# Altium footprint library TRANS_CSD87503Q3ET.PcbLib: 1 footprints
Each footprint in its own frame and in the unit in brackets; x right, y up, seen from the top. Pads: shape width x height; smd on the part's side, far side on the other; paste and mask are expansions set on the pad; w line width, h text height; cw(c..) or ccw(c..) is an arc to the next point about the centre after c.
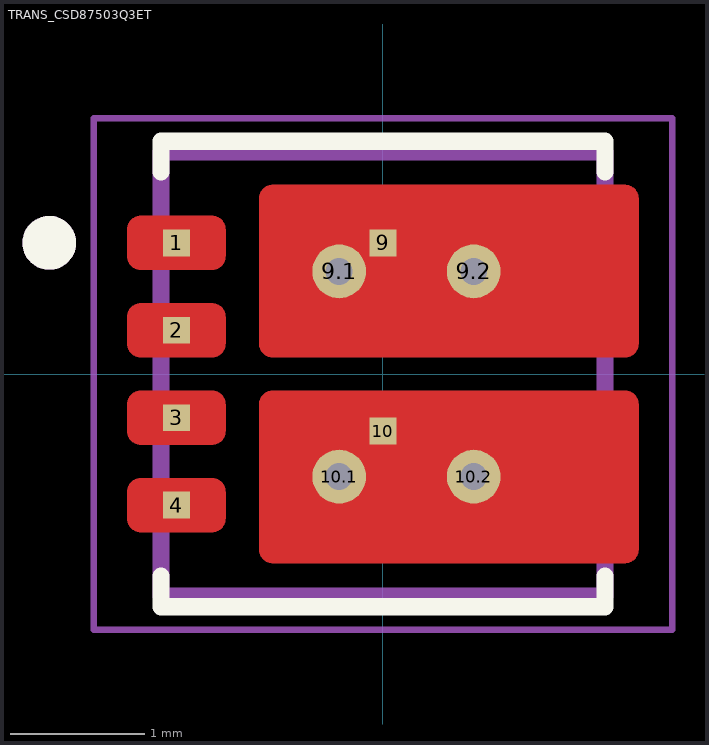
[diagram p0: the footprint, top view; thin cyan lines are the x and y axes]

## TRANS_CSD87503Q3ET [mm]
pads (10):
  rect 0.2x0.2 smd paste-1 mask+0: 1(-1.535,0.975) 2(-1.535,0.325) 3(-1.535,-0.325) 4(-1.535,-0.975) 9(0,0.975) 10(0,-0.425)
  round 0.4 hole 0.2 mask+0: 9.1(-0.325,0.763) 9.2(0.675,0.763) 10.1(-0.325,-0.763) 10.2(0.675,-0.763)
Top Layer:
  region: 1.805,-0.125 1.81,-0.126 1.816,-0.126 1.821,-0.127 1.826,-0.128 1.831,-0.13 1.836,-0.132 1.841,-0.134 1.845,-0.136 1.85,-0.138 1.854,-0.141 1.859,-0.144 1.863,-0.147 1.867,-0.151 1.871,-0.154 1.874,-0.158 1.878,-0.162 1.881,-0.166 1.884,-0.171 1.887,-0.175 1.889,-0.18 1.891,-0.184 1.893,-0.189 1.895,-0.194 1.897,-0.199 1.898,-0.204 1.899,-0.209 1.899,-0.215 1.9,-0.22 1.9,-0.225 1.9,-1.305 1.9,-1.31 1.899,-1.315 1.899,-1.321 1.898,-1.326 1.897,-1.331 1.895,-1.336 1.893,-1.341 1.891,-1.346 1.889,-1.35 1.887,-1.355 1.884,-1.359 1.881,-1.364 1.878,-1.368 1.874,-1.372 1.871,-1.376 1.867,-1.379 1.863,-1.383 1.859,-1.386 1.854,-1.389 1.85,-1.392 1.845,-1.394 1.841,-1.396 1.836,-1.398 1.831,-1.4 1.826,-1.402 1.821,-1.403 1.816,-1.404 1.81,-1.404 1.805,-1.405 1.8,-1.405 -0.82,-1.405 -0.825,-1.405 -0.83,-1.404 -0.836,-1.404 -0.841,-1.403 -0.846,-1.402 -0.851,-1.4 -0.856,-1.398 -0.861,-1.396 -0.865,-1.394 -0.87,-1.392 -0.874,-1.389 -0.879,-1.386 -0.883,-1.383 -0.887,-1.379 -0.891,-1.376 -0.894,-1.372 -0.898,-1.368 -0.901,-1.364 -0.904,-1.359 -0.907,-1.355 -0.909,-1.35 -0.911,-1.346 -0.913,-1.341 -0.915,-1.336 -0.917,-1.331 -0.918,-1.326 -0.919,-1.321 -0.919,-1.315 -0.92,-1.31 -0.92,-1.305 -0.92,-0.225 -0.92,-0.22 -0.919,-0.215 -0.919,-0.209 -0.918,-0.204 -0.917,-0.199 -0.915,-0.194 -0.913,-0.189 -0.911,-0.184 -0.909,-0.18 -0.907,-0.175 -0.904,-0.171 -0.901,-0.166 -0.898,-0.162 -0.894,-0.158 -0.891,-0.154 -0.887,-0.151 -0.883,-0.147 -0.879,-0.144 -0.874,-0.141 -0.87,-0.138 -0.865,-0.136 -0.861,-0.134 -0.856,-0.132 -0.851,-0.13 -0.846,-0.128 -0.841,-0.127 -0.836,-0.126 -0.83,-0.126 -0.825,-0.125 -0.82,-0.125 1.8,-0.125
  region: 1.805,1.405 1.81,1.404 1.816,1.404 1.821,1.403 1.826,1.402 1.831,1.4 1.836,1.398 1.841,1.396 1.845,1.394 1.85,1.392 1.854,1.389 1.859,1.386 1.863,1.383 1.867,1.379 1.871,1.376 1.874,1.372 1.878,1.368 1.881,1.364 1.884,1.359 1.887,1.355 1.889,1.35 1.891,1.346 1.893,1.341 1.895,1.336 1.897,1.331 1.898,1.326 1.899,1.321 1.899,1.315 1.9,1.31 1.9,1.305 1.9,0.225 1.9,0.22 1.899,0.215 1.899,0.209 1.898,0.204 1.897,0.199 1.895,0.194 1.893,0.189 1.891,0.184 1.889,0.18 1.887,0.175 1.884,0.171 1.881,0.166 1.878,0.162 1.874,0.158 1.871,0.154 1.867,0.151 1.863,0.147 1.859,0.144 1.854,0.141 1.85,0.138 1.845,0.136 1.841,0.134 1.836,0.132 1.831,0.13 1.826,0.128 1.821,0.127 1.816,0.126 1.81,0.126 1.805,0.125 1.8,0.125 -0.82,0.125 -0.825,0.125 -0.83,0.126 -0.836,0.126 -0.841,0.127 -0.846,0.128 -0.851,0.13 -0.856,0.132 -0.861,0.134 -0.865,0.136 -0.87,0.138 -0.874,0.141 -0.879,0.144 -0.883,0.147 -0.887,0.151 -0.891,0.154 -0.894,0.158 -0.898,0.162 -0.901,0.166 -0.904,0.171 -0.907,0.175 -0.909,0.18 -0.911,0.184 -0.913,0.189 -0.915,0.194 -0.917,0.199 -0.918,0.204 -0.919,0.209 -0.919,0.215 -0.92,0.22 -0.92,0.225 -0.92,1.305 -0.92,1.31 -0.919,1.315 -0.919,1.321 -0.918,1.326 -0.917,1.331 -0.915,1.336 -0.913,1.341 -0.911,1.346 -0.909,1.35 -0.907,1.355 -0.904,1.359 -0.901,1.364 -0.898,1.368 -0.894,1.372 -0.891,1.376 -0.887,1.379 -0.883,1.383 -0.879,1.386 -0.874,1.389 -0.87,1.392 -0.865,1.394 -0.861,1.396 -0.856,1.398 -0.851,1.4 -0.846,1.402 -0.841,1.403 -0.836,1.404 -0.83,1.404 -0.825,1.405 -0.82,1.405 1.8,1.405
  region: -1.265,-0.775 -1.26,-0.776 -1.254,-0.776 -1.249,-0.777 -1.244,-0.778 -1.239,-0.78 -1.234,-0.782 -1.229,-0.784 -1.225,-0.786 -1.22,-0.788 -1.216,-0.791 -1.211,-0.794 -1.207,-0.797 -1.203,-0.801 -1.199,-0.804 -1.196,-0.808 -1.192,-0.812 -1.189,-0.816 -1.186,-0.821 -1.183,-0.825 -1.181,-0.83 -1.179,-0.834 -1.177,-0.839 -1.175,-0.844 -1.173,-0.849 -1.172,-0.854 -1.171,-0.859 -1.171,-0.865 -1.17,-0.87 -1.17,-0.875 -1.17,-1.075 -1.17,-1.08 -1.171,-1.085 -1.171,-1.091 -1.172,-1.096 -1.173,-1.101 -1.175,-1.106 -1.177,-1.111 -1.179,-1.116 -1.181,-1.12 -1.183,-1.125 -1.186,-1.129 -1.189,-1.134 -1.192,-1.138 -1.196,-1.142 -1.199,-1.146 -1.203,-1.149 -1.207,-1.153 -1.211,-1.156 -1.216,-1.159 -1.22,-1.162 -1.225,-1.164 -1.229,-1.166 -1.234,-1.168 -1.239,-1.17 -1.244,-1.172 -1.249,-1.173 -1.254,-1.174 -1.26,-1.174 -1.265,-1.175 -1.27,-1.175 -1.8,-1.175 -1.805,-1.175 -1.81,-1.174 -1.816,-1.174 -1.821,-1.173 -1.826,-1.172 -1.831,-1.17 -1.836,-1.168 -1.841,-1.166 -1.845,-1.164 -1.85,-1.162 -1.854,-1.159 -1.859,-1.156 -1.863,-1.153 -1.867,-1.149 -1.871,-1.146 -1.874,-1.142 -1.878,-1.138 -1.881,-1.134 -1.884,-1.129 -1.887,-1.125 -1.889,-1.12 -1.891,-1.116 -1.893,-1.111 -1.895,-1.106 -1.897,-1.101 -1.898,-1.096 -1.899,-1.091 -1.899,-1.085 -1.9,-1.08 -1.9,-1.075 -1.9,-0.875 -1.9,-0.87 -1.899,-0.865 -1.899,-0.859 -1.898,-0.854 -1.897,-0.849 -1.895,-0.844 -1.893,-0.839 -1.891,-0.834 -1.889,-0.83 -1.887,-0.825 -1.884,-0.821 -1.881,-0.816 -1.878,-0.812 -1.874,-0.808 -1.871,-0.804 -1.867,-0.801 -1.863,-0.797 -1.859,-0.794 -1.854,-0.791 -1.85,-0.788 -1.845,-0.786 -1.841,-0.784 -1.836,-0.782 -1.831,-0.78 -1.826,-0.778 -1.821,-0.777 -1.816,-0.776 -1.81,-0.776 -1.805,-0.775 -1.8,-0.775 -1.27,-0.775
  region: -1.265,1.175 -1.26,1.174 -1.254,1.174 -1.249,1.173 -1.244,1.172 -1.239,1.17 -1.234,1.168 -1.229,1.166 -1.225,1.164 -1.22,1.162 -1.216,1.159 -1.211,1.156 -1.207,1.153 -1.203,1.149 -1.199,1.146 -1.196,1.142 -1.192,1.138 -1.189,1.134 -1.186,1.129 -1.183,1.125 -1.181,1.12 -1.179,1.116 -1.177,1.111 -1.175,1.106 -1.173,1.101 -1.172,1.096 -1.171,1.091 -1.171,1.085 -1.17,1.08 -1.17,1.075 -1.17,0.875 -1.17,0.87 -1.171,0.865 -1.171,0.859 -1.172,0.854 -1.173,0.849 -1.175,0.844 -1.177,0.839 -1.179,0.834 -1.181,0.83 -1.183,0.825 -1.186,0.821 -1.189,0.816 -1.192,0.812 -1.196,0.808 -1.199,0.804 -1.203,0.801 -1.207,0.797 -1.211,0.794 -1.216,0.791 -1.22,0.788 -1.225,0.786 -1.229,0.784 -1.234,0.782 -1.239,0.78 -1.244,0.778 -1.249,0.777 -1.254,0.776 -1.26,0.776 -1.265,0.775 -1.27,0.775 -1.8,0.775 -1.805,0.775 -1.81,0.776 -1.816,0.776 -1.821,0.777 -1.826,0.778 -1.831,0.78 -1.836,0.782 -1.841,0.784 -1.845,0.786 -1.85,0.788 -1.854,0.791 -1.859,0.794 -1.863,0.797 -1.867,0.801 -1.871,0.804 -1.874,0.808 -1.878,0.812 -1.881,0.816 -1.884,0.821 -1.887,0.825 -1.889,0.83 -1.891,0.834 -1.893,0.839 -1.895,0.844 -1.897,0.849 -1.898,0.854 -1.899,0.859 -1.899,0.865 -1.9,0.87 -1.9,0.875 -1.9,1.075 -1.9,1.08 -1.899,1.085 -1.899,1.091 -1.898,1.096 -1.897,1.101 -1.895,1.106 -1.893,1.111 -1.891,1.116 -1.889,1.12 -1.887,1.125 -1.884,1.129 -1.881,1.134 -1.878,1.138 -1.874,1.142 -1.871,1.146 -1.867,1.149 -1.863,1.153 -1.859,1.156 -1.854,1.159 -1.85,1.162 -1.845,1.164 -1.841,1.166 -1.836,1.168 -1.831,1.17 -1.826,1.172 -1.821,1.173 -1.816,1.174 -1.81,1.174 -1.805,1.175 -1.8,1.175 -1.27,1.175
  region: -1.265,0.525 -1.26,0.524 -1.254,0.524 -1.249,0.523 -1.244,0.522 -1.239,0.52 -1.234,0.518 -1.229,0.516 -1.225,0.514 -1.22,0.512 -1.216,0.509 -1.211,0.506 -1.207,0.503 -1.203,0.499 -1.199,0.496 -1.196,0.492 -1.192,0.488 -1.189,0.484 -1.186,0.479 -1.183,0.475 -1.181,0.47 -1.179,0.466 -1.177,0.461 -1.175,0.456 -1.173,0.451 -1.172,0.446 -1.171,0.441 -1.171,0.435 -1.17,0.43 -1.17,0.425 -1.17,0.225 -1.17,0.22 -1.171,0.215 -1.171,0.209 -1.172,0.204 -1.173,0.199 -1.175,0.194 -1.177,0.189 -1.179,0.184 -1.181,0.18 -1.183,0.175 -1.186,0.171 -1.189,0.166 -1.192,0.162 -1.196,0.158 -1.199,0.154 -1.203,0.151 -1.207,0.147 -1.211,0.144 -1.216,0.141 -1.22,0.138 -1.225,0.136 -1.229,0.134 -1.234,0.132 -1.239,0.13 -1.244,0.128 -1.249,0.127 -1.254,0.126 -1.26,0.126 -1.265,0.125 -1.27,0.125 -1.8,0.125 -1.805,0.125 -1.81,0.126 -1.816,0.126 -1.821,0.127 -1.826,0.128 -1.831,0.13 -1.836,0.132 -1.841,0.134 -1.845,0.136 -1.85,0.138 -1.854,0.141 -1.859,0.144 -1.863,0.147 -1.867,0.151 -1.871,0.154 -1.874,0.158 -1.878,0.162 -1.881,0.166 -1.884,0.171 -1.887,0.175 -1.889,0.18 -1.891,0.184 -1.893,0.189 -1.895,0.194 -1.897,0.199 -1.898,0.204 -1.899,0.209 -1.899,0.215 -1.9,0.22 -1.9,0.225 -1.9,0.425 -1.9,0.43 -1.899,0.435 -1.899,0.441 -1.898,0.446 -1.897,0.451 -1.895,0.456 -1.893,0.461 -1.891,0.466 -1.889,0.47 -1.887,0.475 -1.884,0.479 -1.881,0.484 -1.878,0.488 -1.874,0.492 -1.871,0.496 -1.867,0.499 -1.863,0.503 -1.859,0.506 -1.854,0.509 -1.85,0.512 -1.845,0.514 -1.841,0.516 -1.836,0.518 -1.831,0.52 -1.826,0.522 -1.821,0.523 -1.816,0.524 -1.81,0.524 -1.805,0.525 -1.8,0.525 -1.27,0.525
  region: -1.265,-0.125 -1.26,-0.126 -1.254,-0.126 -1.249,-0.127 -1.244,-0.128 -1.239,-0.13 -1.234,-0.132 -1.229,-0.134 -1.225,-0.136 -1.22,-0.138 -1.216,-0.141 -1.211,-0.144 -1.207,-0.147 -1.203,-0.151 -1.199,-0.154 -1.196,-0.158 -1.192,-0.162 -1.189,-0.166 -1.186,-0.171 -1.183,-0.175 -1.181,-0.18 -1.179,-0.184 -1.177,-0.189 -1.175,-0.194 -1.173,-0.199 -1.172,-0.204 -1.171,-0.209 -1.171,-0.215 -1.17,-0.22 -1.17,-0.225 -1.17,-0.425 -1.17,-0.43 -1.171,-0.435 -1.171,-0.441 -1.172,-0.446 -1.173,-0.451 -1.175,-0.456 -1.177,-0.461 -1.179,-0.466 -1.181,-0.47 -1.183,-0.475 -1.186,-0.479 -1.189,-0.484 -1.192,-0.488 -1.196,-0.492 -1.199,-0.496 -1.203,-0.499 -1.207,-0.503 -1.211,-0.506 -1.216,-0.509 -1.22,-0.512 -1.225,-0.514 -1.229,-0.516 -1.234,-0.518 -1.239,-0.52 -1.244,-0.522 -1.249,-0.523 -1.254,-0.524 -1.26,-0.524 -1.265,-0.525 -1.27,-0.525 -1.8,-0.525 -1.805,-0.525 -1.81,-0.524 -1.816,-0.524 -1.821,-0.523 -1.826,-0.522 -1.831,-0.52 -1.836,-0.518 -1.841,-0.516 -1.845,-0.514 -1.85,-0.512 -1.854,-0.509 -1.859,-0.506 -1.863,-0.503 -1.867,-0.499 -1.871,-0.496 -1.874,-0.492 -1.878,-0.488 -1.881,-0.484 -1.884,-0.479 -1.887,-0.475 -1.889,-0.47 -1.891,-0.466 -1.893,-0.461 -1.895,-0.456 -1.897,-0.451 -1.898,-0.446 -1.899,-0.441 -1.899,-0.435 -1.9,-0.43 -1.9,-0.425 -1.9,-0.225 -1.9,-0.22 -1.899,-0.215 -1.899,-0.209 -1.898,-0.204 -1.897,-0.199 -1.895,-0.194 -1.893,-0.189 -1.891,-0.184 -1.889,-0.18 -1.887,-0.175 -1.884,-0.171 -1.881,-0.166 -1.878,-0.162 -1.874,-0.158 -1.871,-0.154 -1.867,-0.151 -1.863,-0.147 -1.859,-0.144 -1.854,-0.141 -1.85,-0.138 -1.845,-0.136 -1.841,-0.134 -1.836,-0.132 -1.831,-0.13 -1.826,-0.128 -1.821,-0.127 -1.816,-0.126 -1.81,-0.126 -1.805,-0.125 -1.8,-0.125 -1.27,-0.125
Top Overlay:
  circle w0.2: c-2.48,0.975 r0.1
  lines w0.127: -1.65,-1.5 -1.65,-1.73 1.65,-1.73 1.65,-1.5 ; -1.65,1.5 -1.65,1.73 1.65,1.73 1.65,1.5
Top Paste:
  drawing of 10 lines, arcs and shapes, not listed
Top Solder:
  drawing of 6 lines, arcs and shapes, not listed
Mechanical 13:
  circle w0.2: c-2.48,0.975 r0.1
  lines w0.127: -1.65,-1.65 -1.65,1.65 1.65,1.65 1.65,-1.65 -1.65,-1.65
Mechanical 15:
  lines w0.05: -2.15,-1.9 -2.15,1.9 2.15,1.9 2.15,-1.9 -2.15,-1.9